# Altium footprint library bb_kinetic_harvester.PcbLib: 1 footprints
Each footprint in its own frame and in the unit in brackets; x right, y up, seen from the top. Pads: shape width x height; smd on the part's side, far side on the other; paste and mask are expansions set on the pad; w line width, h text height; cw(c..) or ccw(c..) is an arc to the next point about the centre after c.
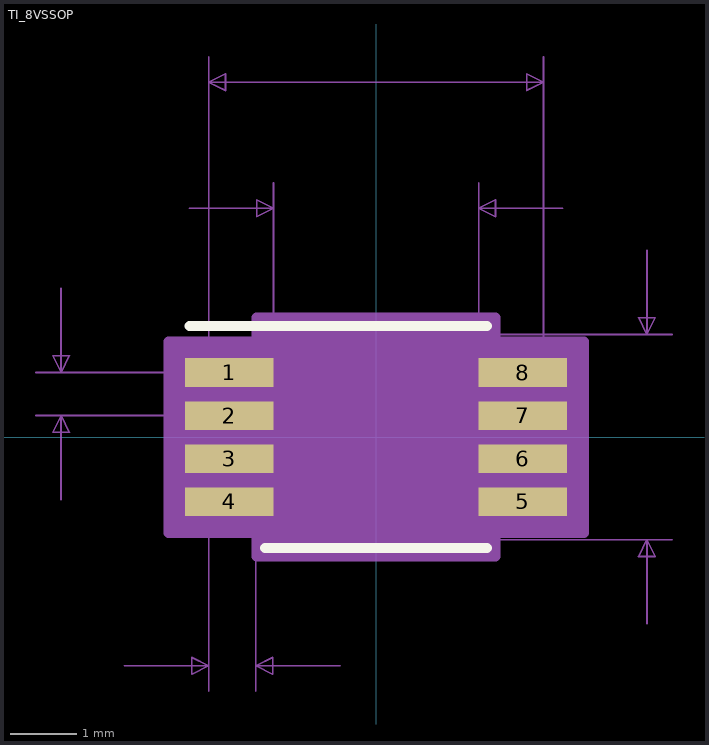
[diagram p0: the footprint, top view; thin cyan lines are the x and y axes]

## TI_8VSSOP [mil]
pads (8):
  rect 52.5x17 smd paste+0 mask+0: 1(-87.25,38.39) 2(-87.25,12.8) 3(-87.25,-12.8) 4(-87.25,-38.39) 5(87.25,-38.39) 6(87.25,-12.8) 7(87.25,12.8) 8(87.25,38.39)
Top Overlay:
  lines w6: -111,66 66,66 ; -66,-66 66,-66
Mechanical 7:
  lines w1: -202.25,12.8 -87.25,12.8 ; -202.25,38.39 -87.25,38.39 ; -187.25,-37.2 -187.25,12.8 ; -187.25,88.39 -187.25,38.39 ; -149.5,-136 -99.5,-136 ; -111,136 -61,136 ; -99.5,-151 -99.5,0 -99.5,226 ; -71.5,-151 -71.5,0 ; -61,0 -61,151 ; -21.5,-136 -71.5,-136 ; 0,-61 176,-61 ; 0,61 176,61 ; 61,0 61,151 ; 99.5,0 99.5,226 ; 111,136 61,136 ; 161,-111 161,-61 ; 161,111 161,61 ; -187.25,12.8 -182.25,2.8 -192.25,2.8 -187.25,12.8 ; -187.25,38.39 -182.25,48.39 -192.25,48.39 -187.25,38.39 ; -99.5,-136 -109.5,-141 -109.5,-131 -99.5,-136 ; -99.5,211 -89.5,206 -89.5,216 -99.5,211 ; -99.5,211 99.5,211 ; -71.5,-136 -61.5,-141 -61.5,-131 -71.5,-136 ; -61,136 -71,131 -71,141 -61,136 ; 61,136 71,131 71,141 61,136 ; 99.5,211 89.5,206 89.5,216 99.5,211 ; 161,-61 166,-71 156,-71 161,-61 ; 161,61 166,71 156,71 161,61
  text "0.028in/0.711mm" at -179.25,-181 h25
  text "0.026in/0.65mm" at -382.25,13.09 h25
  text "0.122in/3.099mm" at 181,-12.5 h25
  text "0.199in/5.055mm" at -93.75,231 h25
  text "0.122in/3.099mm" at -93.75,156 h25
Mechanical 13:
  lines w0: -12,61 ccw(c0,61) 12,61
  lines w1: -99.5,-45.89 -61,-45.89 -61,-30.89 -99.5,-30.89 -99.5,-45.89 ; -99.5,-20.3 -61,-20.3 -61,-5.3 -99.5,-5.3 -99.5,-20.3 ; -99.5,5.3 -61,5.3 -61,20.3 -99.5,20.3 -99.5,5.3 ; -99.5,30.89 -61,30.89 -61,45.89 -99.5,45.89 -99.5,30.89 ; -61,-61 -61,61 61,61 61,-61 -61,-61 ; 61,-45.89 99.5,-45.89 99.5,-30.89 61,-30.89 61,-45.89 ; 61,-20.3 99.5,-20.3 99.5,-5.3 61,-5.3 61,-20.3 ; 61,5.3 99.5,5.3 99.5,20.3 61,20.3 61,5.3 ; 61,30.89 99.5,30.89 99.5,45.89 61,45.89 61,30.89
  text "*" at -58.5,8 h50
Mechanical 15:
  region: -71,-56.89 -123.5,-56.89 -123.5,56.89 -71,56.89 -71,71 71,71 71,56.89 123.5,56.89 123.5,-56.89 71,-56.89 71,-71 -71,-71
  lines w6: -123.5,-56.89 -71,-56.89 -71,-71 71,-71 71,-56.89 123.5,-56.89 123.5,56.89 71,56.89 71,71 -71,71 -71,56.89 -123.5,56.89 -123.5,-56.89
3D body: height 10, standoff 0, extent 0,0 10,10